# Altium footprint library ics.PcbLib: 20 footprints (part 2 of 2)
Each footprint in its own frame and in the unit in brackets; x right, y up, seen from the top. Pads: shape width x height; smd on the part's side, far side on the other; paste and mask are expansions set on the pad; w line width, h text height; cw(c..) or ccw(c..) is an arc to the next point about the centre after c.
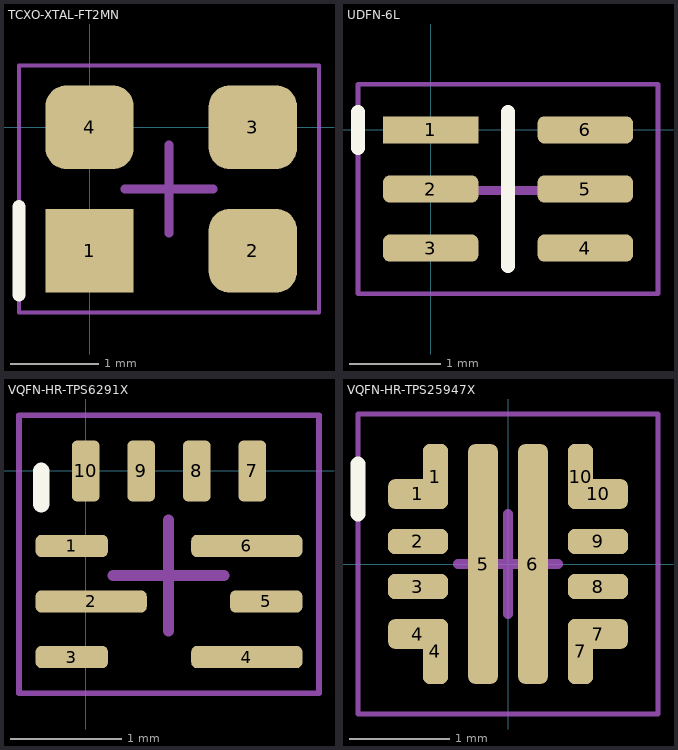
[diagram p1: the footprints below, top view; thin cyan lines are the x and y axes]

## TCXO-XTAL-FT2MN [mm]
pads (4):
  rect 1x0.95 smd: 1(0,-1.4)
  rrect50% 1x0.95 smd: 2(1.85,-1.4) 3(1.85,0) 4(0,0)
Top Overlay:
  lines w0.15: -0.8,-1.9 -0.8,-0.9
Mechanical 15:
  lines w0.05: -0.8,-2.1 -0.8,0.7 2.6,0.7 2.6,-2.1 -0.8,-2.1
  lines w0.1: 0.4,-0.7 1.4,-0.7 ; 0.9,-1.2 0.9,-0.2
3D body "IQXO-540.step": height 0.8, standoff 0, extent -0.075,-1.5 1.925,0.1

## UDFN-6L [mm]
pads (6):
  rect 1.05x0.3 smd: 1(0,0)
  rrect50% 1.05x0.3 smd: 2(0,-0.65) 3(0,-1.3) 4(1.7,-1.3) 5(1.7,-0.65) 6(1.7,0)
Top Overlay:
  lines w0.15: -0.8,-0.2 -0.8,0.2 ; 0.85,-1.5 0.85,0.2
Mechanical 15:
  lines w0.05: -0.8,-1.8 -0.8,0.5 2.5,0.5 2.5,-1.8 -0.8,-1.8
  lines w0.1: 0.353,-0.667 1.353,-0.667 ; 0.853,-1.167 0.853,-0.167
3D body "UDFN6.step": height 0.6, standoff -0.05, extent -0.15,-1.65 1.85,0.35

## VQFN-HR-TPS6291X [mm]
pads (10):
  rrect50% 0.65x0.2 smd: 1(-0.125,-0.675) 3(-0.125,-1.675) 5(1.625,-1.175)
  rrect50% 1x0.2 smd: 2(0.05,-1.175) 4(1.45,-1.675) 6(1.45,-0.675)
  rrect40% 0.25x0.55 smd: 7(1.5,0) 8(1,0) 9(0.5,0) 10(0,0)
Top Overlay:
  lines w0.15: -0.4,-0.3 -0.4,0
Mechanical 15:
  lines w0.05: -0.6,-2 2.1,-2 2.1,0.5 -0.6,0.5 -0.6,-2
  lines w0.1: 0.246,-0.94 1.246,-0.94 ; 0.746,-1.44 0.746,-0.44
3D body "TPS62912RPUR--3DModel-STEP-740395.STEP": height 1, standoff 0, extent -0.25,-1.925 1.75,0.075

## VQFN-HR-TPS25947X [mm]
pads (14):
  rrect50% 0.6x0.3 smd: 1(-0.9,0.7) 4(-0.9,-0.7) 7(0.9,-0.7) 10(0.9,0.7)
  rrect50% 0.25x0.65 smd: 1(-0.725,0.875) 4(-0.725,-0.875) 7(0.725,-0.875) 10(0.725,0.875)
  rrect50% 0.6x0.25 smd: 2(-0.9,0.225) 3(-0.9,-0.225) 8(0.9,-0.225) 9(0.9,0.225)
  rrect50% 0.3x2.4 smd: 5(-0.25,0) 6(0.25,0)
Top Overlay:
  lines w0.15: -1.5,0.5 -1.5,1
Mechanical 15:
  lines w0.05: -1.5,-1.5 -1.5,1.5 1.5,1.5 1.5,-1.5 -1.5,-1.5
  lines w0.1: -0.5,0 0.5,0 ; 0,-0.5 0,0.5
3D body "TPS259470LRPWR.stp": height 1, standoff 0, extent -1,-1 1,1